# Altium schematic symbol library Qorvo.SchLib: 13 symbols
Pins are listed as number, name and electrical type; pins without a type are passive.

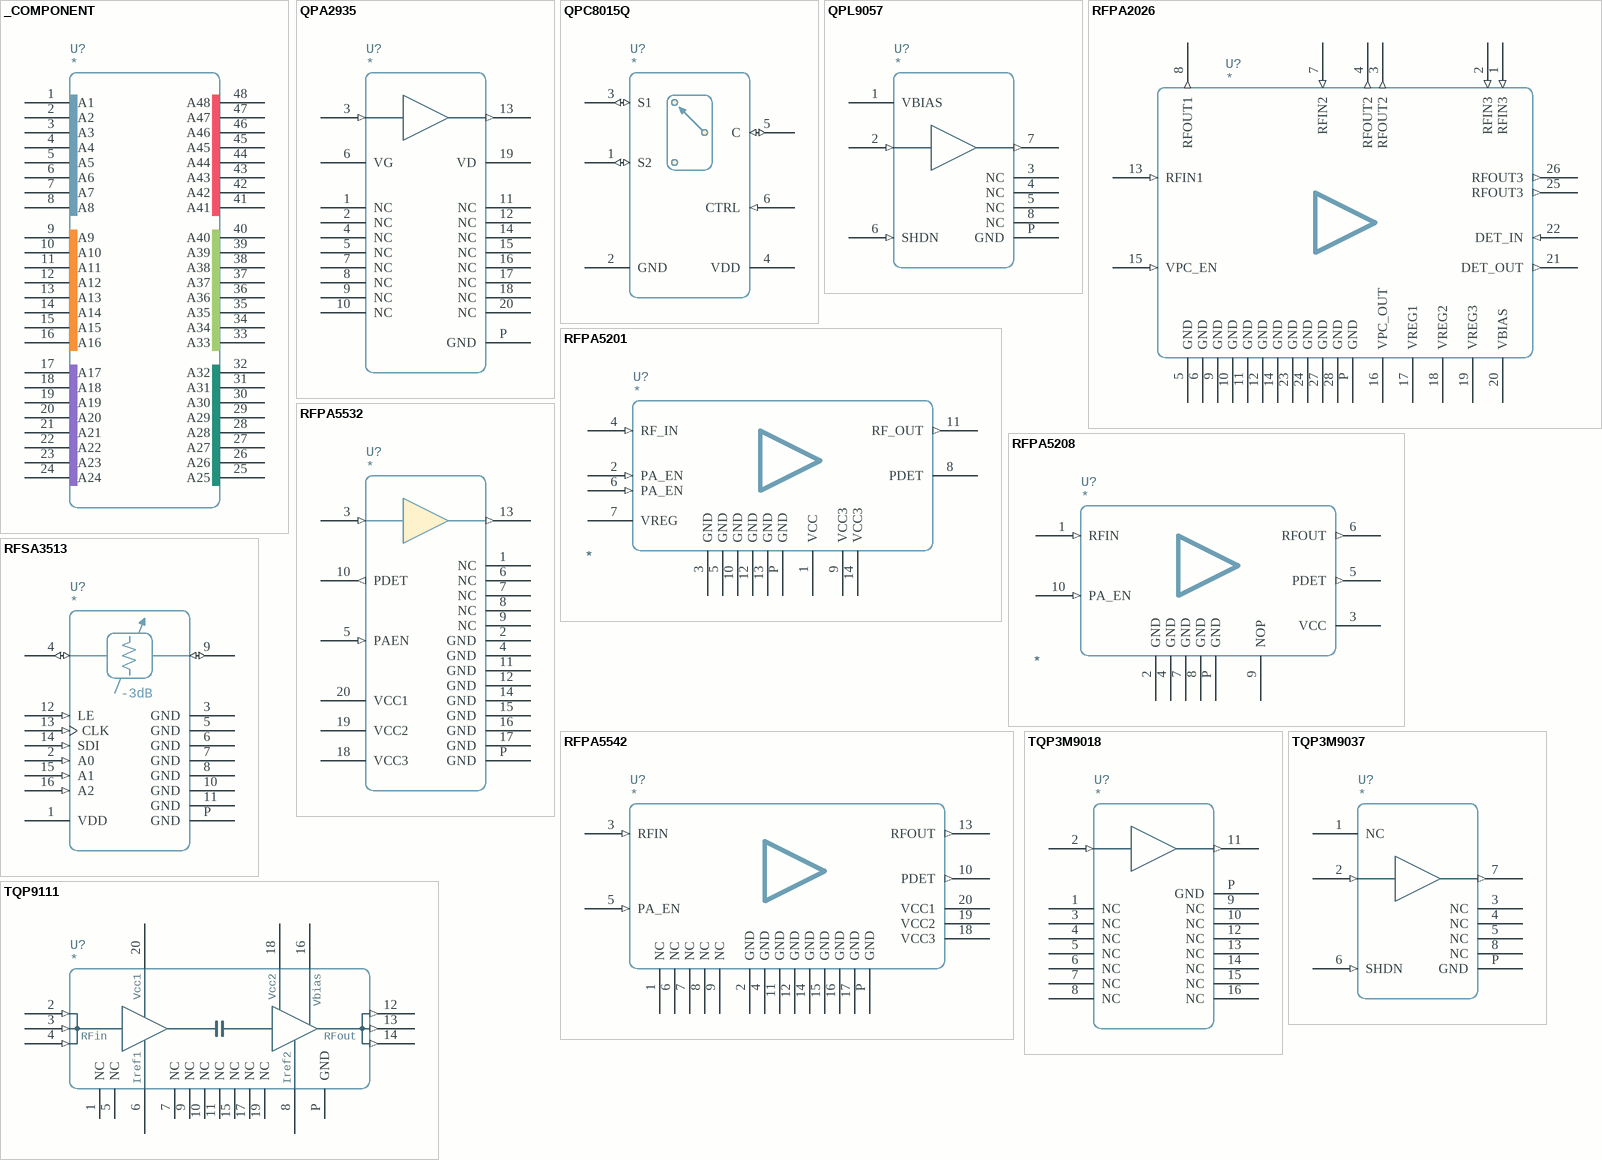
[diagram p0: symbols _COMPONENT to TQP9111]

## _COMPONENT
designator U?
pins: 1 A1, 2 A2, 3 A3, 4 A4, 5 A5, 6 A6, 7 A7, 8 A8, 9 A9, 10 A10, 11 A11, 12 A12, 13 A13, 14 A14, 15 A15, 16 A16, 17 A17, 18 A18, 19 A19, 20 A20, 21 A21, 22 A22, 23 A23, 24 A24, 25 A25, 26 A26, 27 A27, 28 A28, 29 A29, 30 A30, 31 A31, 32 A32, 33 A33, 34 A34, 35 A35, 36 A36, 37 A37, 38 A38, 39 A39, 40 A40, 41 A41, 42 A42, 43 A43, 44 A44, 45 A45, 46 A46, 47 A47, 48 A48

## QPA2935
designator U?
pins: 1 NC, 2 NC, 3 RFIN (in), 4 NC, 5 NC, 6 VG, 7 NC, 8 NC, 9 NC, 10 NC, 11 NC, 12 NC, 13 RFOUT (out), 14 NC, 15 NC, 16 NC, 17 NC, 18 NC, 19 VD, 20 NC, P GND

## QPC8015Q
designator U?
pins: 1 S2 (io), 2 GND, 3 S1 (io), 4 VDD, 5 C (io), 6 CTRL (in)

## QPL9057
designator U?
pins: 1 VBIAS, 2 RFIN (in), 3 NC, 4 NC, 5 NC, 6 SHDN (in), 7 RFOUT (out), 8 NC, P GND

## RFPA2026
designator U?
footprint RFPA2026
pins: 1 RFIN3 (in), 2 RFIN3 (in), 3 RFOUT2 (out), 4 RFOUT2 (out), 5 GND, 6 GND, 7 RFIN2 (in), 8 RFOUT1 (out), 9 GND, 10 GND, 11 GND, 12 GND, 13 RFIN1 (in), 14 GND, 15 VPC_EN (in), 16 VPC_OUT (power), 17 VREG1, 18 VREG2, 19 VREG3, 20 VBIAS, 21 DET_OUT (out), 22 DET_IN (in), 23 GND, 24 GND, 25 RFOUT3 (out), 26 RFOUT3 (out), 27 GND, 28 GND, P GND

## RFPA5201
designator U?
Vendor: *; Value: *; SN-NI-ECHO: *; Version: *; VersionDate: *; PN-MFG: *
footprint RFPA5201E
pins: 1 VCC, 2 PA_EN (in), 3 GND, 4 RF_IN (in), 5 GND, 6 PA_EN (in), 7 VREG, 8 PDET, 9 VCC3, 10 GND, 11 RF_OUT (out), 12 GND, 13 GND, 14 VCC3, P GND

## RFPA5208
designator U?
Vendor: *; Value: *; SN-NI-ECHO: *; Version: *; VersionDate: *; PN-MFG: *
footprint RFPA5208
pins: 1 RFIN (in), 2 GND, 3 VCC, 4 GND, 5 PDET (out), 6 RFOUT (out), 7 GND, 8 GND, 9 NOP, 10 PA_EN (in), P GND

## RFPA5532
designator U?
footprint QFN_4_20
pins: 1 NC, 2 GND, 3 IN (in), 4 GND, 5 PAEN (in), 6 NC, 7 NC, 8 NC, 9 NC, 10 PDET (out), 11 GND, 12 GND, 13 OUT (out), 14 GND, 15 GND, 16 GND, 17 GND, 18 VCC3, 19 VCC2, 20 VCC1, P GND

## RFPA5542
designator U?
pins: 1 NC, 2 GND, 3 RFIN (in), 4 GND, 5 PA_EN (in), 6 NC, 7 NC, 8 NC, 9 NC, 10 PDET (out), 11 GND, 12 GND, 13 RFOUT (out), 14 GND, 15 GND, 16 GND, 17 GND, 18 VCC3, 19 VCC2, 20 VCC1, P GND

## RFSA3513
designator U?
footprint QFN_3_16
pins: 1 VDD, 2 A0 (in), 3 GND, 4 RF1 (io), 5 GND, 6 GND, 7 GND, 8 GND, 9 RF2 (io), 10 GND, 11 GND, 12 LE (in), 13 CLK (in), 14 SDI (in), 15 A1 (in), 16 A2 (in), P GND
text: -3dB

## TQP3M9018
designator U?
pins: 1 NC, 2 RFIN (in), 3 NC, 4 NC, 5 NC, 6 NC, 7 NC, 8 NC, 9 NC, 10 NC, 11 RFOUT (out), 12 NC, 13 NC, 14 NC, 15 NC, 16 NC, P GND

## TQP3M9037
designator U?
pins: 1 NC, 2 RFIN (in), 3 NC, 4 NC, 5 NC, 6 SHDN (in), 7 RFOUT (out), 8 NC, P GND

## TQP9111
designator U?
pins: 1 NC, 2 RFIN (in), 3 RFIN (in), 4 RFIN (in), 5 NC, 6 Iref1, 7 NC, 8 Iref2, 9 NC, 10 NC, 11 NC, 12 RFOUT (out), 13 RFOUT (out), 14 RFOUT (out), 15 NC, 16 Vbias, 17 NC, 18 Vcc2, 19 NC, 20 Vcc1, P GND
text: RFin; RFout